# Altium schematic symbol library IQEH54NE2LM7UCG.SchLib: 1 symbol
Pins are listed as number, name and electrical type; pins without a type are passive.

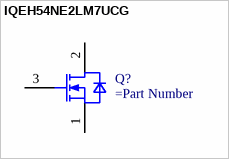
[diagram p0: symbol IQEH54NE2LM7UCG]

## IQEH54NE2LM7UCG
designator Q?
pins: 1 SOURCE, 2 DRAIN, 3 GATE